# Altium integrated library TC4424CPA.IntLib: 1 symbol
Pins are listed as number, name and electrical type; pins without a type are passive.

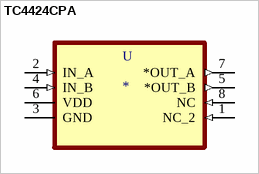
[diagram p0: symbol TC4424CPA]

## TC4424CPA
designator U
Low-Side Gate Driver IC Non-Inverting 8-PDIP; MP: TC4424CPA; MF: Microchip; Availability: Unavailable; Price: None; Package: DIP-8 Microchip; DigiKey-Purchase-URL: https://snapeda.com/shop?store=DigiKey&id=1207842; Value: *; SnapEDA_Link: https://www.snapeda.com/parts/TC4424CPA/Microchip/view-part/1207842/?ref=snap
footprint DIP254P762X432-8
pins: 1 NC_2 (in), 2 IN_A (in), 3 GND, 4 IN_B (in), 5 *OUT_B (out), 6 VDD (power), 7 *OUT_A (out), 8 NC (in)